# Altium footprint library 23032024_ChauGiaMan_PCB_buoi_2.PcbLib: 12 footprints
Each footprint in its own frame and in the unit in brackets; x right, y up, seen from the top. Pads: shape width x height; smd on the part's side, far side on the other; paste and mask are expansions set on the pad; w line width, h text height; cw(c..) or ccw(c..) is an arc to the next point about the centre after c.
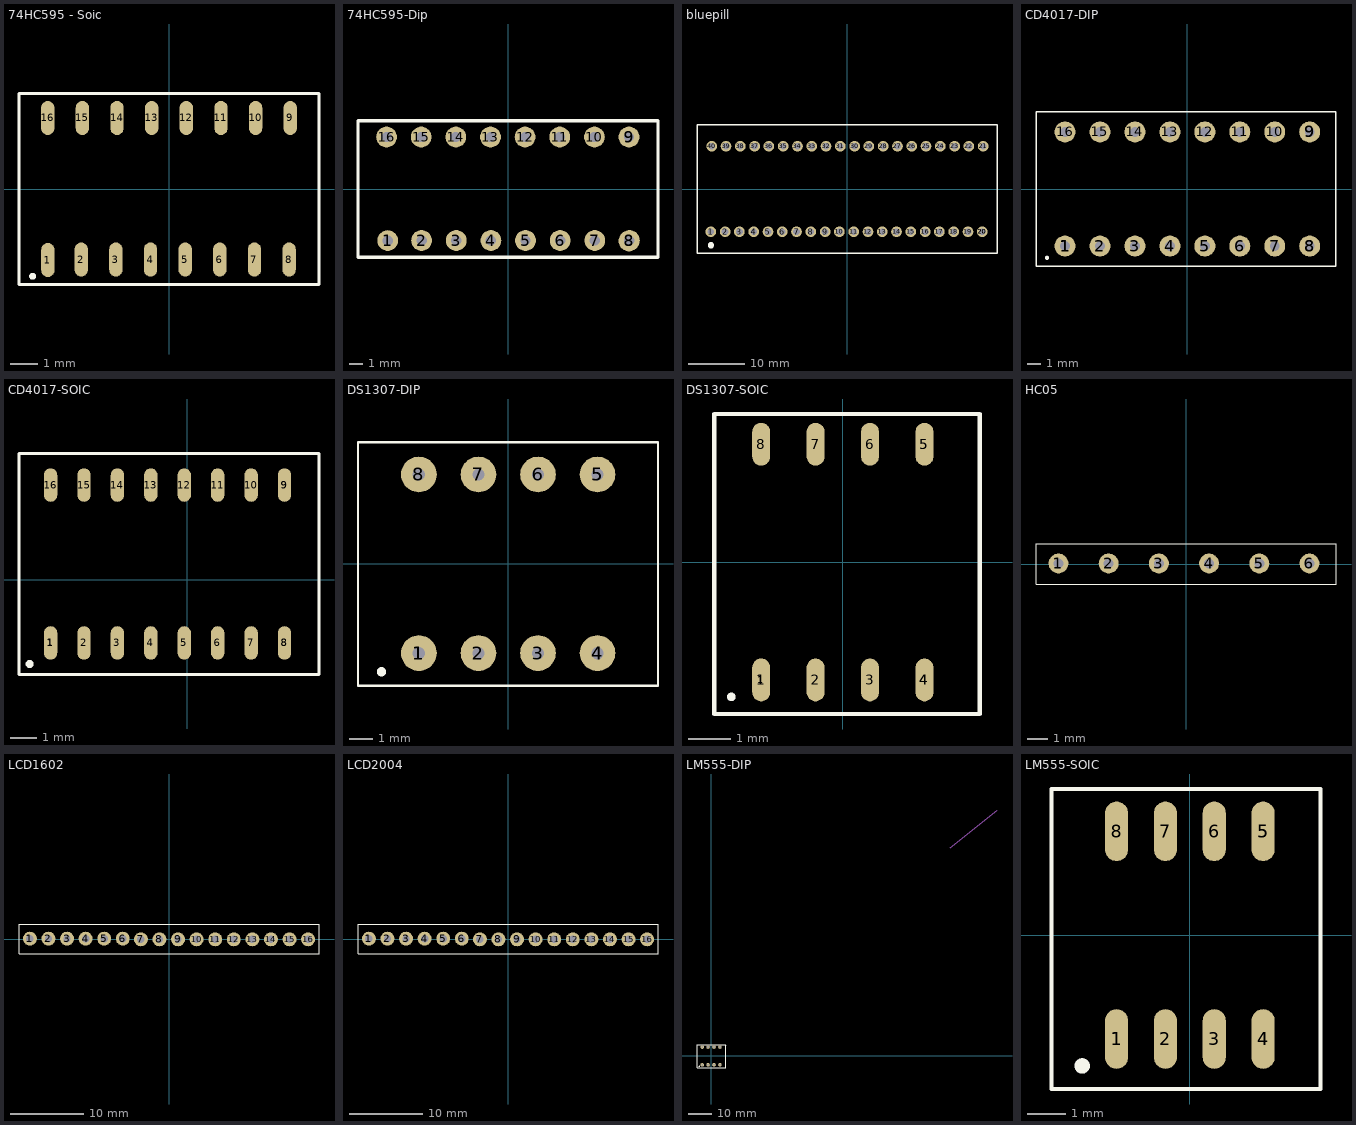
[diagram p0: the footprints below, top view; thin cyan lines are the x and y axes]

## 74HC595 - Soic [mm]
pads (16):
  oval 0.49x1.25 smd: 1(-4.44,-2.605) 2(-3.217,-2.587) 3(-1.947,-2.587) 4(-0.677,-2.587) 5(0.593,-2.587) 6(1.863,-2.587) 7(3.133,-2.587) 8(4.403,-2.587) 9(4.445,2.605) 10(3.175,2.605) 11(1.905,2.605) 12(0.635,2.605) 13(-0.635,2.605) 14(-1.905,2.605) 15(-3.175,2.605) 16(-4.445,2.605)
Top Overlay:
  circle w0.15: c-5,-3.2 r0.05
  lines w0.1: -5.5,-3.5 5.5,-3.5 5.5,3.5 -5.5,3.5 -5.5,-3.5
3D body "IC Shift Register 8 bit HC595 SO-16 Surface Mount.STEP": height 0.91, standoff -0.37, extent -4.997,-2.998 5.003,3.082

## 74HC595-Dip [mil]
pads (18):
  round 60 hole 30: 1(-347.3,-148.97) 2(-249.4,-148.74) 3(-149.4,-148.74) 4(-49.4,-148.74) 5(50.6,-148.74) 6(150.6,-148.74) 7(250.6,-148.74) 8(349.4,-150) 8(350.6,-148.74) 9(349.4,150) 9(349.4,150) 10(249.4,150) 11(149.4,150) 12(49.4,150) 13(-50.6,150) 14(-150.6,150) 15(-250.6,150) 16(-350.6,150)
Top Overlay:
  lines w10: -433.07,-196.85 -433.07,196.85 433.07,196.85 433.07,-196.85 -433.07,-196.85
3D body "74hc595 (1).stp": height 157.48, standoff -62.99, extent -379.4,-143.45 368.63,151.83

## bluepill [mm]
pads (42):
  round 1.9 hole 1.2 mask+0.102: 1(-24.211,-7.602) 2(-21.671,-7.602) 3(-19.131,-7.602) 4(-16.591,-7.602) 5(-14.051,-7.602) 6(-11.511,-7.602) 7(-8.971,-7.602) 8(-6.431,-7.602) 9(-3.891,-7.602) 10(-1.351,-7.602) 11(1.189,-7.602) 12(3.729,-7.602) 13(6.269,-7.602) 14(8.809,-7.602) 15(11.349,-7.602) 16(13.889,-7.602) 17(16.429,-7.602) 18(18.969,-7.602) 19(21.509,-7.602) 20(24.049,-7.602) 21(24.211,7.602) 22(21.671,7.602) 23(19.131,7.602) 24(16.591,7.602) 25(14.051,7.602) 26(11.511,7.602) 27(8.971,7.602) 28(6.431,7.602) 29(3.891,7.602) 30(1.351,7.602) 31(-1.189,7.602) 32(-3.729,7.602) 33(-6.269,7.602) 34(-8.809,7.602) 35(-11.349,7.602) 36(-13.889,7.602) 37(-16.429,7.602) 38(-18.969,7.602) 39(-21.509,7.602) 40(-24.049,7.602)
  round 1.9 hole 1.2 mask+0.003: 20(24.049,-7.602) 20(24.049,-7.602)
Top Overlay:
  circle w1: c-24.2,-10 r0.05
  lines w0.254: -26.67,-11.43 -26.67,11.43 26.67,11.43 26.67,0 26.67,-11.43 -26.67,-11.43
3D body "STM32F103C8T6_Blue_Pill_v6.step": height 12.77, standoff -5.5, extent -29.953,-11.453 27.607,11.407

## CD4017-DIP [mm]
pads (21):
  round 1.524 hole 0.72: 1(-8.89,-4.15) 1(-8.89,-4.15) 1(-8.89,-4.15) 2(-6.35,-4.15) 3(-3.81,-4.15) 4(-1.27,-4.15) 5(1.27,-4.15) 6(3.81,-4.15) 7(6.35,-4.15) 8(8.89,-4.15) 8(8.89,-4.15) 9(8.89,4.15) 9(8.89,4.15) 10(6.35,4.15) 11(3.81,4.15) 12(1.27,4.15) 13(-1.27,4.15) 14(-3.81,4.15) 15(-6.35,4.15) 16(-8.89,4.15)
  round 1.524 hole 0.53: 1(-8.89,-4.15)
Top Overlay:
  circle w0.2: c-10.2,-5 r0.05
  lines w0.1: -11,-5.6 10.8,-5.6 10.8,5.6 -10.6,5.6 -11,5.6 -11,-5.6
3D body "CD4017.STEP": height 5.28, standoff -2.98, extent -9.823,-4.341 9.867,4.369

## CD4017-SOIC [mm]
pads (21):
  oval 0.51x1.27 smd: 1(-5.2,-2.4) 1(-5.2,-2.4) 1(-5.2,-2.4) 2(-3.93,-2.4) 3(-2.66,-2.4) 4(-1.39,-2.4) 5(-0.12,-2.4) 6(1.15,-2.4) 7(2.42,-2.4) 8(3.69,-2.4) 8(3.69,-2.4) 9(3.69,3.6) 9(3.69,3.6) 10(2.42,3.6) 11(1.15,3.6) 12(-0.12,3.6) 13(-1.39,3.6) 14(-2.66,3.6) 15(-3.93,3.6) 16(-5.2,3.6)
  oval 0.3x0.75 smd: 1(-5.2,-2.4)
Top Overlay:
  circle w0.2: c-6,-3.2 r0.05
  lines w0.1: -6.4,-3.6 -6.4,4.8 5,4.8 5,-3.6 -6.4,-3.6
3D body "CD4017 SOIC-16.STEP": height 1.95, standoff 0, extent -5.764,-2.483 4.256,3.717

## DS1307-DIP [mil]
pads (11):
  round 60 hole 20.87: 1(-150,-150) 1(-150,-150) 2(-50,-150) 3(50,-150) 4(150,-150) 4(150,-150) 5(150,150) 5(150,150) 6(50,150) 7(-50,150) 8(-150,150)
Top Overlay:
  circle w7.87: c-212.99,-181.5 r3.94
  lines w3.94: -252.36,-205.12 251.57,-205.12 251.57,204.33 -252.36,204.33 -252.36,-205.12
3D body "PIC10F200 PDIP300.stp": height 200.39, standoff -98.03, extent -215.35,-157.87 214.57,151.97

## DS1307-SOIC [mm]
pads (15):
  oval 0.3x1 smd: 1(-1.908,-2.748)
  oval 0.42x1 smd: 1(-1.902,-2.75) 1(-1.902,-2.75) 2(-0.632,-2.75) 3(0.638,-2.75) 4(1.908,-2.75) 4(1.908,-2.75) 4(1.908,-2.75) 4(1.908,-2.75) 4(1.908,-2.75) 5(1.908,2.75) 5(1.908,2.75) 6(0.638,2.75) 7(-0.632,2.75) 8(-1.902,2.75)
Top Overlay:
  circle w0.1: c-2.6,-3.145 r0.05
  lines w0.1: -3,-3.545 3.2,-3.545 3.2,3.455 -3,3.455 -3,-3.545
3D body "SOIC8 (1).STEP": height 1.5, standoff 0, extent -2.442,-2.908 2.458,2.992

## HC05 [mm]
pads (6):
  round 1 hole 0.5 unplated: 1(-6.377,0.027)
  round 1 hole 0.5 mask+0.102: 2(-3.867,0.027) 3(-1.357,0.027) 4(1.153,0.027) 5(3.663,0.027) 6(6.173,0.027)
Top Overlay:
  lines w0.05: -7.5,-1.016 7.5,-1.016 7.5,1.016 -7.5,1.016 -7.5,-1.016
3D body "HC05.SLDPRT": height 36.28, standoff -4.35, extent -7.925,-5.475 8.075,0.2

## LCD1602 [mm]
pads (17):
  round 1.9 hole 1 mask+0.102: 1(-19.015,0.042) 1(-19.015,0.042) 2(-16.475,0.042) 3(-13.935,0.042) 4(-11.395,0.042) 5(-8.855,0.042) 6(-6.315,0.042) 7(-3.845,-0.042) 8(-1.305,-0.042) 9(1.235,-0.042) 10(3.775,-0.042) 11(6.315,-0.042) 12(8.855,-0.042) 13(11.395,-0.042) 14(13.935,-0.042) 15(16.475,-0.042) 16(19.015,-0.042)
Top Overlay:
  lines w0.1: -20.5,-2 -20.5,2 0,2 20.5,2 20.5,-2 -20.5,-2
3D body "Display LCD1602_mtc-assembly.stp": height 4.59, standoff -14.7, extent -29.225,-41.375 54.775,2.625

## LCD2004 [mm]
pads (17):
  round 1.9 hole 1 mask+0.102: 1(-19.015,0.042) 1(-19.015,0.042) 2(-16.475,0.042) 3(-13.935,0.042) 4(-11.395,0.042) 5(-8.855,0.042) 6(-6.315,0.042) 7(-3.845,-0.042) 8(-1.305,-0.042) 9(1.235,-0.042) 10(3.775,-0.042) 11(6.315,-0.042) 12(8.855,-0.042) 13(11.395,-0.042) 14(13.935,-0.042) 15(16.475,-0.042) 16(19.015,-0.042)
Top Overlay:
  lines w0.1: -20.5,-2 -20.5,2 0,2 20.5,2 20.5,-2 -20.5,-2

## LM555-DIP [mil]
pads (20):
  round 39.37 hole 14.96 unplated: 1(-150.23,-150.74)
  round 60 hole 28.35: 1(-150,-150.39) 1(-149.77,-150.04) 2(-49.77,-150.04) 3(50.23,-150.04) 4(150.23,-150.04) 4(150.23,-150.04) 4(150.23,-150.04) 4(150.23,-150.04) 4(150.23,-150.04) 4(150.23,-150.04) 4(150.23,-150.04) 4(150.23,-150.04) 5(150.23,150.74) 5(150.23,150.74) 6(50.23,150.74) 6(50.23,150.74) 7(-49.77,150.74) 8(-149.77,150.74)
  round 39.37 hole 19.68 unplated: 1(-150,-150.39)
Top Overlay:
  circle w7.87: c-196.85,-173.23 r3.94
  lines w3.94: -236.22,-196.85 -236.22,188.98 236.22,188.98 244.09,181.1 244.09,-196.85 -236.22,-196.85
Mechanical 1:
  lines w10: 4028.02,3507.01 4815.42,4136.93
3D body "PIC10F204 PDIP300.stp": height 200.39, standoff -98.03, extent -211.55,-153.83 218.38,156.01

## LM555-SOIC [mm]
pads (11):
  oval 0.6x1.55 smd: 1(-1.905,-2.7) 1(-1.905,-2.7) 2(-0.635,-2.7) 3(0.635,-2.7) 4(1.905,-2.7) 4(1.905,-2.7) 5(1.905,2.7) 5(1.905,2.7) 6(0.635,2.7) 7(-0.635,2.7) 8(-1.905,2.7)
Top Overlay:
  circle w0.2: c-2.8,-3.4 r0.1
  lines w0.1: -3.6,-4 3.4,-4 3.4,3.8 -3.6,3.8 -3.6,-4
3D body "SOIC8.STEP": height 1.5, standoff 0, extent -2.45,-2.95 2.45,2.95